# EAGLE library part OPA2355 (library TI)
200MHz, CMOS OPAMP with Shutdown
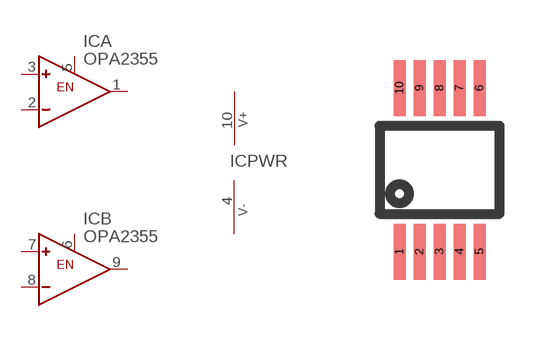
[diagram p16: symbol with the pads of MSOP10; footprint MSOP10]

Designator prefix IC; gates A=OPAMP-EN B=OPAMP-EN PWR=ICPWR-V+-V-

## OPA2355DGS  [MSOP10]
1  A:OUT  out
2  A:IN-  in
3  A:IN+  in
4  PWR:V-  pwr
5  A:EN  in
6  B:EN  in
7  B:IN+  in
8  B:IN-  in
9  B:OUT  out
10  PWR:V+  pwr

## Footprint MSOP10 (pad centres in mm)
MSOP 10 package, 0.5mm pitch
smd 0.3 x 1.4: 1 -1,-2.05; 2 -0.5,-2.05; 3 0,-2.05; 4 0.5,-2.05; 5 1,-2.05; 6 1,2.05; 7 0.5,2.05; 8 0,2.05; 9 -0.5,2.05; 10 -1,2.05